# Altium footprint library 64372886.PcbLib: 1 footprints
Each footprint in its own frame and in the unit in brackets; x right, y up, seen from the top. Pads: shape width x height; smd on the part's side, far side on the other; paste and mask are expansions set on the pad; w line width, h text height; cw(c..) or ccw(c..) is an arc to the next point about the centre after c.
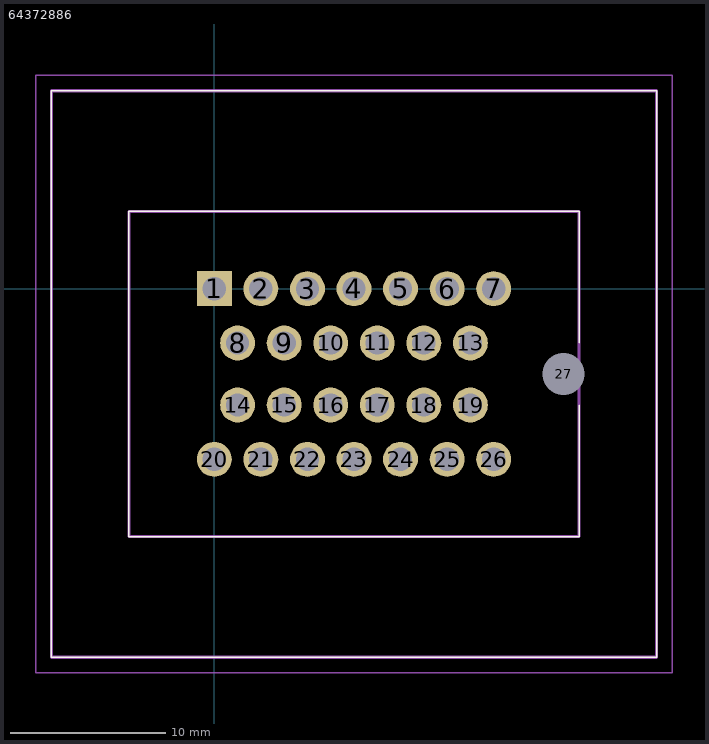
[diagram p0: the footprint, top view; thin cyan lines are the x and y axes]

## 64372886 [mm]
pads (27):
  rect 2.25x2.25 hole 1.5: 1(0,0)
  round 2.25 hole 1.5: 2(3,0) 3(6,0) 4(9,0) 5(12,0) 6(15,0) 7(18,0) 8(1.5,-3.5) 9(4.5,-3.5) 10(7.5,-3.5) 11(10.5,-3.5) 12(13.5,-3.5) 13(16.5,-3.5) 14(1.5,-7.5) 15(4.5,-7.5) 16(7.5,-7.5) 17(10.5,-7.5) 18(13.5,-7.5) 19(16.5,-7.5) 20(0,-11) 21(3,-11) 22(6,-11) 23(9,-11) 24(12,-11) 25(15,-11) 26(18,-11)
  round 1.35 hole 2.7 unplated: 27(22.5,-5.5)
Top Overlay:
  lines w0.1: 23.5,-7.5 23.5,-15.975 -5.5,-16 -5.5,4.975 23.5,4.975 23.5,-3.5 ; -10.5,-23.75 -10.5,12.75 28.5,12.75 28.5,-23.75 -10.5,-23.75
Mechanical 15:
  lines w0.2: -10.5,-23.75 -10.5,12.75 28.5,12.75 28.5,-23.75 -10.5,-23.75 ; -5.5,-15.975 -5.5,4.975 23.5,4.975 23.5,-15.975 -5.5,-15.975
Mechanical 20:
  lines w0.1: -11.5,-24.75 -11.5,13.75 29.5,13.75 29.5,-24.75 -11.5,-24.75
3D body "6437288-6.stp": height 24.6, standoff -4.6, extent -10.5,-22.588 28.5,13.912